# Altium schematic symbol library Filter.SchLib: 1 symbol
Pins are listed as number, name and electrical type; pins without a type are passive.

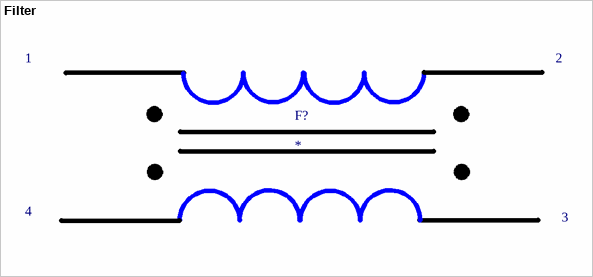
[diagram p0: symbol Filter]

## Filter
designator F?
text: 1; 2; 4; 3